# Altium integrated library ST Memory EEPROM Flash.IntLib: 1183 symbols (part 8 of 29)
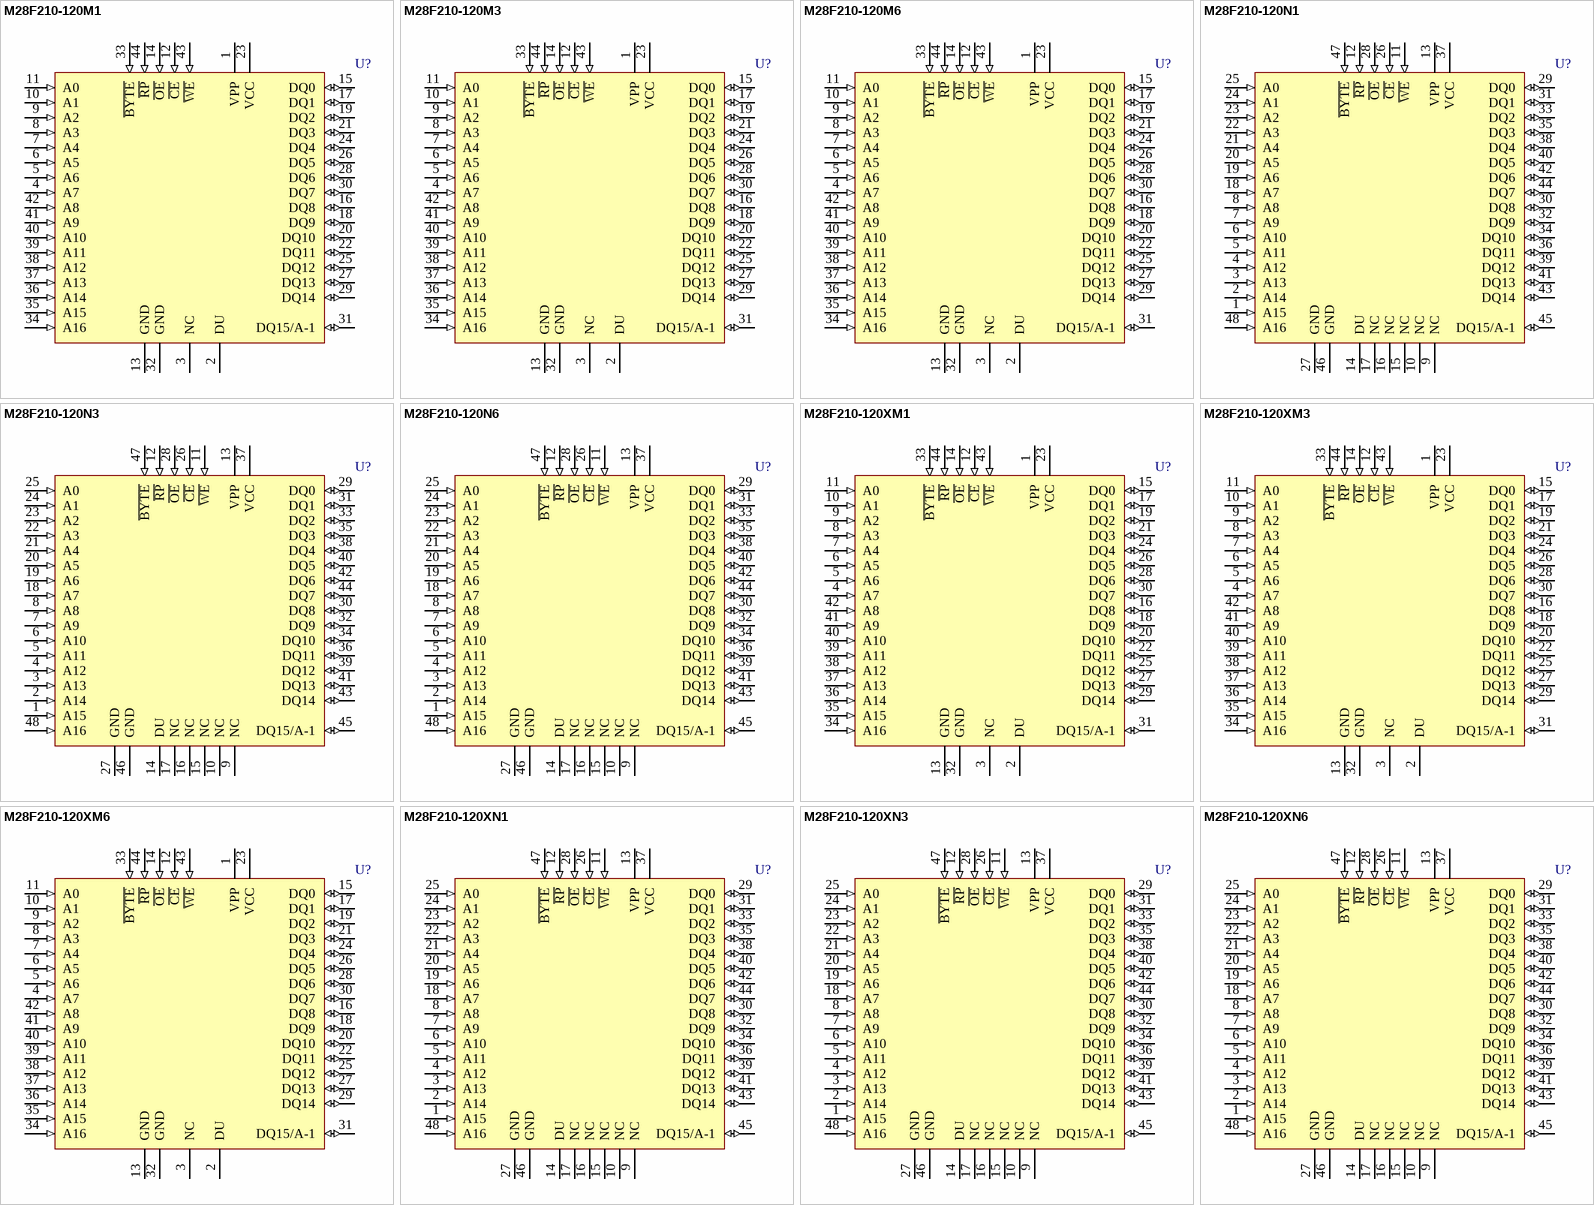
[diagram p88: symbols M28F210-120M1 to M28F210-120XN6]

## M28F210-120M3
designator U?
2 Mbit (x8 or x16, Block Erase) Flash Memory; Note: Do Not Use pin number 2 (DU).; Published: 24-Aug-2001; LatestRevisionDate: 13-Apr-2006; LatestRevisionNote: IPC-7351 Footprint Added.; DatasheetVersion: Feb-1996; PackageReference: SO44; Publisher: Altium Limited; PackageDescription: 44-Pin Plastic Small Outline Package 1.27 mm Pitch; ComponentLink1Description: Manufacturer Link; ComponentLink1URL: http://www.st.com/
footprint SO44_N (SOP, 44-Leads, Body 28.2x13.3mm, Pitch 1.27mm, IPC Medium Density)
footprint SO44_L (SOP, 44-Leads, Body 28.2x13.3mm, Pitch 1.27mm, IPC High Density)
footprint SO44_M (SOP, 44-Leads, Body 28.2x13.3mm, Pitch 1.27mm, IPC Low Density)
3D model SO44 (44-Pin Plastic Small Outline Package 1.27 mm Pitch)
pins: 1 VPP (power), 2 DU, 3 NC, 4 A7 (in), 5 A6 (in), 6 A5 (in), 7 A4 (in), 8 A3 (in), 9 A2 (in), 10 A1 (in), 11 A0 (in), 12 ~{CE} (in), 13 GND (power), 14 ~{OE} (in), 15 DQ0 (io), 16 DQ8 (io), 17 DQ1 (io), 18 DQ9 (io), 19 DQ2 (io), 20 DQ10 (io), 21 DQ3 (io), 22 DQ11 (io), 23 VCC (power), 24 DQ4 (io), 25 DQ12 (io), 26 DQ5 (io), 27 DQ13 (io), 28 DQ6 (io), 29 DQ14 (io), 30 DQ7 (io), 31 DQ15/A-1 (io), 32 GND (power), 33 ~{BYTE} (in), 34 A16 (in), 35 A15 (in), 36 A14 (in), 37 A13 (in), 38 A12 (in), 39 A11 (in), 40 A10 (in), 41 A9 (in), 42 A8 (in), 43 ~{WE} (in), 44 ~{RP} (in)

## M28F210-120M6
designator U?
2 Mbit (x8 or x16, Block Erase) Flash Memory; Note: Do Not Use pin number 2 (DU).; Published: 24-Aug-2001; LatestRevisionDate: 13-Apr-2006; LatestRevisionNote: IPC-7351 Footprint Added.; DatasheetVersion: Feb-1996; PackageReference: SO44; Publisher: Altium Limited; PackageDescription: 44-Pin Plastic Small Outline Package 1.27 mm Pitch; ComponentLink1Description: Manufacturer Link; ComponentLink1URL: http://www.st.com/
footprint SO44_N (SOP, 44-Leads, Body 28.2x13.3mm, Pitch 1.27mm, IPC Medium Density)
footprint SO44_L (SOP, 44-Leads, Body 28.2x13.3mm, Pitch 1.27mm, IPC High Density)
footprint SO44_M (SOP, 44-Leads, Body 28.2x13.3mm, Pitch 1.27mm, IPC Low Density)
3D model SO44 (44-Pin Plastic Small Outline Package 1.27 mm Pitch)
pins: 1 VPP (power), 2 DU, 3 NC, 4 A7 (in), 5 A6 (in), 6 A5 (in), 7 A4 (in), 8 A3 (in), 9 A2 (in), 10 A1 (in), 11 A0 (in), 12 ~{CE} (in), 13 GND (power), 14 ~{OE} (in), 15 DQ0 (io), 16 DQ8 (io), 17 DQ1 (io), 18 DQ9 (io), 19 DQ2 (io), 20 DQ10 (io), 21 DQ3 (io), 22 DQ11 (io), 23 VCC (power), 24 DQ4 (io), 25 DQ12 (io), 26 DQ5 (io), 27 DQ13 (io), 28 DQ6 (io), 29 DQ14 (io), 30 DQ7 (io), 31 DQ15/A-1 (io), 32 GND (power), 33 ~{BYTE} (in), 34 A16 (in), 35 A15 (in), 36 A14 (in), 37 A13 (in), 38 A12 (in), 39 A11 (in), 40 A10 (in), 41 A9 (in), 42 A8 (in), 43 ~{WE} (in), 44 ~{RP} (in)

## M28F210-120N1
designator U?
2 Mbit (x8 or x16, Block Erase) Flash Memory; Note: Do Not Use pin number 14 (DU).; Published: 24-Aug-2001; LatestRevisionDate: 06-Jun-2005; LatestRevisionNote: Stylized 3D Model Added.; DatasheetVersion: Feb-1996; PackageVersion: Jul-1998; PackageReference: TSOP48; Publisher: Altium Limited; PackageDescription: Shrink Small Outline, Plastic, Thin; 48 Leads; Body Width 18.4 mm; Pitch 0.5 mm; Code_JEDEC: MO-142-DD; ComponentLink1Description: Manufacturer Link; ComponentLink1URL: http://www.st.com/
footprint TSOP48 (Shrink Small Outline, Plastic, Thin; 48 Leads; Body Width 18.4 mm; Pitch 0.5 mm)
3D model TSOP48 (Shrink Small Outline, Plastic, Thin; 48 Leads; Body Width 18.4 mm; Pitch 0.5 mm)
pins: 1 A15 (in), 2 A14 (in), 3 A13 (in), 4 A12 (in), 5 A11 (in), 6 A10 (in), 7 A9 (in), 8 A8 (in), 9 NC, 10 NC, 11 ~{WE} (in), 12 ~{RP} (in), 13 VPP (power), 14 DU, 15 NC, 16 NC, 17 NC, 18 A7 (in), 19 A6 (in), 20 A5 (in), 21 A4 (in), 22 A3 (in), 23 A2 (in), 24 A1 (in), 25 A0 (in), 26 ~{CE} (in), 27 GND (power), 28 ~{OE} (in), 29 DQ0 (io), 30 DQ8 (io), 31 DQ1 (io), 32 DQ9 (io), 33 DQ2 (io), 34 DQ10 (io), 35 DQ3 (io), 36 DQ11 (io), 37 VCC (power), 38 DQ4 (io), 39 DQ12 (io), 40 DQ5 (io), 41 DQ13 (io), 42 DQ6 (io), 43 DQ14 (io), 44 DQ7 (io), 45 DQ15/A-1 (io), 46 GND (power), 47 ~{BYTE} (in), 48 A16 (in)

## M28F210-120N3
designator U?
2 Mbit (x8 or x16, Block Erase) Flash Memory; Note: Do Not Use pin number 14 (DU).; Published: 24-Aug-2001; LatestRevisionDate: 06-Jun-2005; LatestRevisionNote: Stylized 3D Model Added.; DatasheetVersion: Feb-1996; PackageVersion: Jul-1998; PackageReference: TSOP48; Publisher: Altium Limited; PackageDescription: Shrink Small Outline, Plastic, Thin; 48 Leads; Body Width 18.4 mm; Pitch 0.5 mm; Code_JEDEC: MO-142-DD; ComponentLink1Description: Manufacturer Link; ComponentLink1URL: http://www.st.com/
footprint TSOP48 (Shrink Small Outline, Plastic, Thin; 48 Leads; Body Width 18.4 mm; Pitch 0.5 mm)
3D model TSOP48 (Shrink Small Outline, Plastic, Thin; 48 Leads; Body Width 18.4 mm; Pitch 0.5 mm)
pins: 1 A15 (in), 2 A14 (in), 3 A13 (in), 4 A12 (in), 5 A11 (in), 6 A10 (in), 7 A9 (in), 8 A8 (in), 9 NC, 10 NC, 11 ~{WE} (in), 12 ~{RP} (in), 13 VPP (power), 14 DU, 15 NC, 16 NC, 17 NC, 18 A7 (in), 19 A6 (in), 20 A5 (in), 21 A4 (in), 22 A3 (in), 23 A2 (in), 24 A1 (in), 25 A0 (in), 26 ~{CE} (in), 27 GND (power), 28 ~{OE} (in), 29 DQ0 (io), 30 DQ8 (io), 31 DQ1 (io), 32 DQ9 (io), 33 DQ2 (io), 34 DQ10 (io), 35 DQ3 (io), 36 DQ11 (io), 37 VCC (power), 38 DQ4 (io), 39 DQ12 (io), 40 DQ5 (io), 41 DQ13 (io), 42 DQ6 (io), 43 DQ14 (io), 44 DQ7 (io), 45 DQ15/A-1 (io), 46 GND (power), 47 ~{BYTE} (in), 48 A16 (in)

## M28F210-120N6
designator U?
2 Mbit (x8 or x16, Block Erase) Flash Memory; Note: Do Not Use pin number 14 (DU).; Published: 24-Aug-2001; LatestRevisionDate: 06-Jun-2005; LatestRevisionNote: Stylized 3D Model Added.; DatasheetVersion: Feb-1996; PackageVersion: Jul-1998; PackageReference: TSOP48; Publisher: Altium Limited; PackageDescription: Shrink Small Outline, Plastic, Thin; 48 Leads; Body Width 18.4 mm; Pitch 0.5 mm; Code_JEDEC: MO-142-DD; ComponentLink1Description: Manufacturer Link; ComponentLink1URL: http://www.st.com/
footprint TSOP48 (Shrink Small Outline, Plastic, Thin; 48 Leads; Body Width 18.4 mm; Pitch 0.5 mm)
3D model TSOP48 (Shrink Small Outline, Plastic, Thin; 48 Leads; Body Width 18.4 mm; Pitch 0.5 mm)
pins: 1 A15 (in), 2 A14 (in), 3 A13 (in), 4 A12 (in), 5 A11 (in), 6 A10 (in), 7 A9 (in), 8 A8 (in), 9 NC, 10 NC, 11 ~{WE} (in), 12 ~{RP} (in), 13 VPP (power), 14 DU, 15 NC, 16 NC, 17 NC, 18 A7 (in), 19 A6 (in), 20 A5 (in), 21 A4 (in), 22 A3 (in), 23 A2 (in), 24 A1 (in), 25 A0 (in), 26 ~{CE} (in), 27 GND (power), 28 ~{OE} (in), 29 DQ0 (io), 30 DQ8 (io), 31 DQ1 (io), 32 DQ9 (io), 33 DQ2 (io), 34 DQ10 (io), 35 DQ3 (io), 36 DQ11 (io), 37 VCC (power), 38 DQ4 (io), 39 DQ12 (io), 40 DQ5 (io), 41 DQ13 (io), 42 DQ6 (io), 43 DQ14 (io), 44 DQ7 (io), 45 DQ15/A-1 (io), 46 GND (power), 47 ~{BYTE} (in), 48 A16 (in)

## M28F210-120XM1
designator U?
2 Mbit (x8 or x16, Block Erase) Flash Memory; Note: Do Not Use pin number 2 (DU).; Published: 24-Aug-2001; LatestRevisionDate: 13-Apr-2006; LatestRevisionNote: IPC-7351 Footprint Added.; DatasheetVersion: Feb-1996; PackageReference: SO44; Publisher: Altium Limited; PackageDescription: 44-Pin Plastic Small Outline Package 1.27 mm Pitch; ComponentLink1Description: Manufacturer Link; ComponentLink1URL: http://www.st.com/
footprint SO44_N (SOP, 44-Leads, Body 28.2x13.3mm, Pitch 1.27mm, IPC Medium Density)
footprint SO44_L (SOP, 44-Leads, Body 28.2x13.3mm, Pitch 1.27mm, IPC High Density)
footprint SO44_M (SOP, 44-Leads, Body 28.2x13.3mm, Pitch 1.27mm, IPC Low Density)
3D model SO44 (44-Pin Plastic Small Outline Package 1.27 mm Pitch)
pins: 1 VPP (power), 2 DU, 3 NC, 4 A7 (in), 5 A6 (in), 6 A5 (in), 7 A4 (in), 8 A3 (in), 9 A2 (in), 10 A1 (in), 11 A0 (in), 12 ~{CE} (in), 13 GND (power), 14 ~{OE} (in), 15 DQ0 (io), 16 DQ8 (io), 17 DQ1 (io), 18 DQ9 (io), 19 DQ2 (io), 20 DQ10 (io), 21 DQ3 (io), 22 DQ11 (io), 23 VCC (power), 24 DQ4 (io), 25 DQ12 (io), 26 DQ5 (io), 27 DQ13 (io), 28 DQ6 (io), 29 DQ14 (io), 30 DQ7 (io), 31 DQ15/A-1 (io), 32 GND (power), 33 ~{BYTE} (in), 34 A16 (in), 35 A15 (in), 36 A14 (in), 37 A13 (in), 38 A12 (in), 39 A11 (in), 40 A10 (in), 41 A9 (in), 42 A8 (in), 43 ~{WE} (in), 44 ~{RP} (in)

## M28F210-120XM3
designator U?
2 Mbit (x8 or x16, Block Erase) Flash Memory; Note: Do Not Use pin number 2 (DU).; Published: 24-Aug-2001; LatestRevisionDate: 13-Apr-2006; LatestRevisionNote: IPC-7351 Footprint Added.; DatasheetVersion: Feb-1996; PackageReference: SO44; Publisher: Altium Limited; PackageDescription: 44-Pin Plastic Small Outline Package 1.27 mm Pitch; ComponentLink1Description: Manufacturer Link; ComponentLink1URL: http://www.st.com/
footprint SO44_N (SOP, 44-Leads, Body 28.2x13.3mm, Pitch 1.27mm, IPC Medium Density)
footprint SO44_L (SOP, 44-Leads, Body 28.2x13.3mm, Pitch 1.27mm, IPC High Density)
footprint SO44_M (SOP, 44-Leads, Body 28.2x13.3mm, Pitch 1.27mm, IPC Low Density)
3D model SO44 (44-Pin Plastic Small Outline Package 1.27 mm Pitch)
pins: 1 VPP (power), 2 DU, 3 NC, 4 A7 (in), 5 A6 (in), 6 A5 (in), 7 A4 (in), 8 A3 (in), 9 A2 (in), 10 A1 (in), 11 A0 (in), 12 ~{CE} (in), 13 GND (power), 14 ~{OE} (in), 15 DQ0 (io), 16 DQ8 (io), 17 DQ1 (io), 18 DQ9 (io), 19 DQ2 (io), 20 DQ10 (io), 21 DQ3 (io), 22 DQ11 (io), 23 VCC (power), 24 DQ4 (io), 25 DQ12 (io), 26 DQ5 (io), 27 DQ13 (io), 28 DQ6 (io), 29 DQ14 (io), 30 DQ7 (io), 31 DQ15/A-1 (io), 32 GND (power), 33 ~{BYTE} (in), 34 A16 (in), 35 A15 (in), 36 A14 (in), 37 A13 (in), 38 A12 (in), 39 A11 (in), 40 A10 (in), 41 A9 (in), 42 A8 (in), 43 ~{WE} (in), 44 ~{RP} (in)

## M28F210-120XM6
designator U?
2 Mbit (x8 or x16, Block Erase) Flash Memory; Note: Do Not Use pin number 2 (DU).; Published: 24-Aug-2001; LatestRevisionDate: 13-Apr-2006; LatestRevisionNote: IPC-7351 Footprint Added.; DatasheetVersion: Feb-1996; PackageReference: SO44; Publisher: Altium Limited; PackageDescription: 44-Pin Plastic Small Outline Package 1.27 mm Pitch; ComponentLink1Description: Manufacturer Link; ComponentLink1URL: http://www.st.com/
footprint SO44_N (SOP, 44-Leads, Body 28.2x13.3mm, Pitch 1.27mm, IPC Medium Density)
footprint SO44_L (SOP, 44-Leads, Body 28.2x13.3mm, Pitch 1.27mm, IPC High Density)
footprint SO44_M (SOP, 44-Leads, Body 28.2x13.3mm, Pitch 1.27mm, IPC Low Density)
3D model SO44 (44-Pin Plastic Small Outline Package 1.27 mm Pitch)
pins: 1 VPP (power), 2 DU, 3 NC, 4 A7 (in), 5 A6 (in), 6 A5 (in), 7 A4 (in), 8 A3 (in), 9 A2 (in), 10 A1 (in), 11 A0 (in), 12 ~{CE} (in), 13 GND (power), 14 ~{OE} (in), 15 DQ0 (io), 16 DQ8 (io), 17 DQ1 (io), 18 DQ9 (io), 19 DQ2 (io), 20 DQ10 (io), 21 DQ3 (io), 22 DQ11 (io), 23 VCC (power), 24 DQ4 (io), 25 DQ12 (io), 26 DQ5 (io), 27 DQ13 (io), 28 DQ6 (io), 29 DQ14 (io), 30 DQ7 (io), 31 DQ15/A-1 (io), 32 GND (power), 33 ~{BYTE} (in), 34 A16 (in), 35 A15 (in), 36 A14 (in), 37 A13 (in), 38 A12 (in), 39 A11 (in), 40 A10 (in), 41 A9 (in), 42 A8 (in), 43 ~{WE} (in), 44 ~{RP} (in)

## M28F210-120XN1
designator U?
2 Mbit (x8 or x16, Block Erase) Flash Memory; Note: Do Not Use pin number 14 (DU).; Published: 24-Aug-2001; LatestRevisionDate: 06-Jun-2005; LatestRevisionNote: Stylized 3D Model Added.; DatasheetVersion: Feb-1996; PackageVersion: Jul-1998; PackageReference: TSOP48; Publisher: Altium Limited; PackageDescription: Shrink Small Outline, Plastic, Thin; 48 Leads; Body Width 18.4 mm; Pitch 0.5 mm; Code_JEDEC: MO-142-DD; ComponentLink1Description: Manufacturer Link; ComponentLink1URL: http://www.st.com/
footprint TSOP48 (Shrink Small Outline, Plastic, Thin; 48 Leads; Body Width 18.4 mm; Pitch 0.5 mm)
3D model TSOP48 (Shrink Small Outline, Plastic, Thin; 48 Leads; Body Width 18.4 mm; Pitch 0.5 mm)
pins: 1 A15 (in), 2 A14 (in), 3 A13 (in), 4 A12 (in), 5 A11 (in), 6 A10 (in), 7 A9 (in), 8 A8 (in), 9 NC, 10 NC, 11 ~{WE} (in), 12 ~{RP} (in), 13 VPP (power), 14 DU, 15 NC, 16 NC, 17 NC, 18 A7 (in), 19 A6 (in), 20 A5 (in), 21 A4 (in), 22 A3 (in), 23 A2 (in), 24 A1 (in), 25 A0 (in), 26 ~{CE} (in), 27 GND (power), 28 ~{OE} (in), 29 DQ0 (io), 30 DQ8 (io), 31 DQ1 (io), 32 DQ9 (io), 33 DQ2 (io), 34 DQ10 (io), 35 DQ3 (io), 36 DQ11 (io), 37 VCC (power), 38 DQ4 (io), 39 DQ12 (io), 40 DQ5 (io), 41 DQ13 (io), 42 DQ6 (io), 43 DQ14 (io), 44 DQ7 (io), 45 DQ15/A-1 (io), 46 GND (power), 47 ~{BYTE} (in), 48 A16 (in)

## M28F210-120XN3
designator U?
2 Mbit (x8 or x16, Block Erase) Flash Memory; Note: Do Not Use pin number 14 (DU).; Published: 24-Aug-2001; LatestRevisionDate: 06-Jun-2005; LatestRevisionNote: Stylized 3D Model Added.; DatasheetVersion: Feb-1996; PackageVersion: Jul-1998; PackageReference: TSOP48; Publisher: Altium Limited; PackageDescription: Shrink Small Outline, Plastic, Thin; 48 Leads; Body Width 18.4 mm; Pitch 0.5 mm; Code_JEDEC: MO-142-DD; ComponentLink1Description: Manufacturer Link; ComponentLink1URL: http://www.st.com/
footprint TSOP48 (Shrink Small Outline, Plastic, Thin; 48 Leads; Body Width 18.4 mm; Pitch 0.5 mm)
3D model TSOP48 (Shrink Small Outline, Plastic, Thin; 48 Leads; Body Width 18.4 mm; Pitch 0.5 mm)
pins: 1 A15 (in), 2 A14 (in), 3 A13 (in), 4 A12 (in), 5 A11 (in), 6 A10 (in), 7 A9 (in), 8 A8 (in), 9 NC, 10 NC, 11 ~{WE} (in), 12 ~{RP} (in), 13 VPP (power), 14 DU, 15 NC, 16 NC, 17 NC, 18 A7 (in), 19 A6 (in), 20 A5 (in), 21 A4 (in), 22 A3 (in), 23 A2 (in), 24 A1 (in), 25 A0 (in), 26 ~{CE} (in), 27 GND (power), 28 ~{OE} (in), 29 DQ0 (io), 30 DQ8 (io), 31 DQ1 (io), 32 DQ9 (io), 33 DQ2 (io), 34 DQ10 (io), 35 DQ3 (io), 36 DQ11 (io), 37 VCC (power), 38 DQ4 (io), 39 DQ12 (io), 40 DQ5 (io), 41 DQ13 (io), 42 DQ6 (io), 43 DQ14 (io), 44 DQ7 (io), 45 DQ15/A-1 (io), 46 GND (power), 47 ~{BYTE} (in), 48 A16 (in)

## M28F210-120XN6
designator U?
2 Mbit (x8 or x16, Block Erase) Flash Memory; Note: Do Not Use pin number 14 (DU).; Published: 24-Aug-2001; LatestRevisionDate: 06-Jun-2005; LatestRevisionNote: Stylized 3D Model Added.; DatasheetVersion: Feb-1996; PackageVersion: Jul-1998; PackageReference: TSOP48; Publisher: Altium Limited; PackageDescription: Shrink Small Outline, Plastic, Thin; 48 Leads; Body Width 18.4 mm; Pitch 0.5 mm; Code_JEDEC: MO-142-DD; ComponentLink1Description: Manufacturer Link; ComponentLink1URL: http://www.st.com/
footprint TSOP48 (Shrink Small Outline, Plastic, Thin; 48 Leads; Body Width 18.4 mm; Pitch 0.5 mm)
3D model TSOP48 (Shrink Small Outline, Plastic, Thin; 48 Leads; Body Width 18.4 mm; Pitch 0.5 mm)
pins: 1 A15 (in), 2 A14 (in), 3 A13 (in), 4 A12 (in), 5 A11 (in), 6 A10 (in), 7 A9 (in), 8 A8 (in), 9 NC, 10 NC, 11 ~{WE} (in), 12 ~{RP} (in), 13 VPP (power), 14 DU, 15 NC, 16 NC, 17 NC, 18 A7 (in), 19 A6 (in), 20 A5 (in), 21 A4 (in), 22 A3 (in), 23 A2 (in), 24 A1 (in), 25 A0 (in), 26 ~{CE} (in), 27 GND (power), 28 ~{OE} (in), 29 DQ0 (io), 30 DQ8 (io), 31 DQ1 (io), 32 DQ9 (io), 33 DQ2 (io), 34 DQ10 (io), 35 DQ3 (io), 36 DQ11 (io), 37 VCC (power), 38 DQ4 (io), 39 DQ12 (io), 40 DQ5 (io), 41 DQ13 (io), 42 DQ6 (io), 43 DQ14 (io), 44 DQ7 (io), 45 DQ15/A-1 (io), 46 GND (power), 47 ~{BYTE} (in), 48 A16 (in)

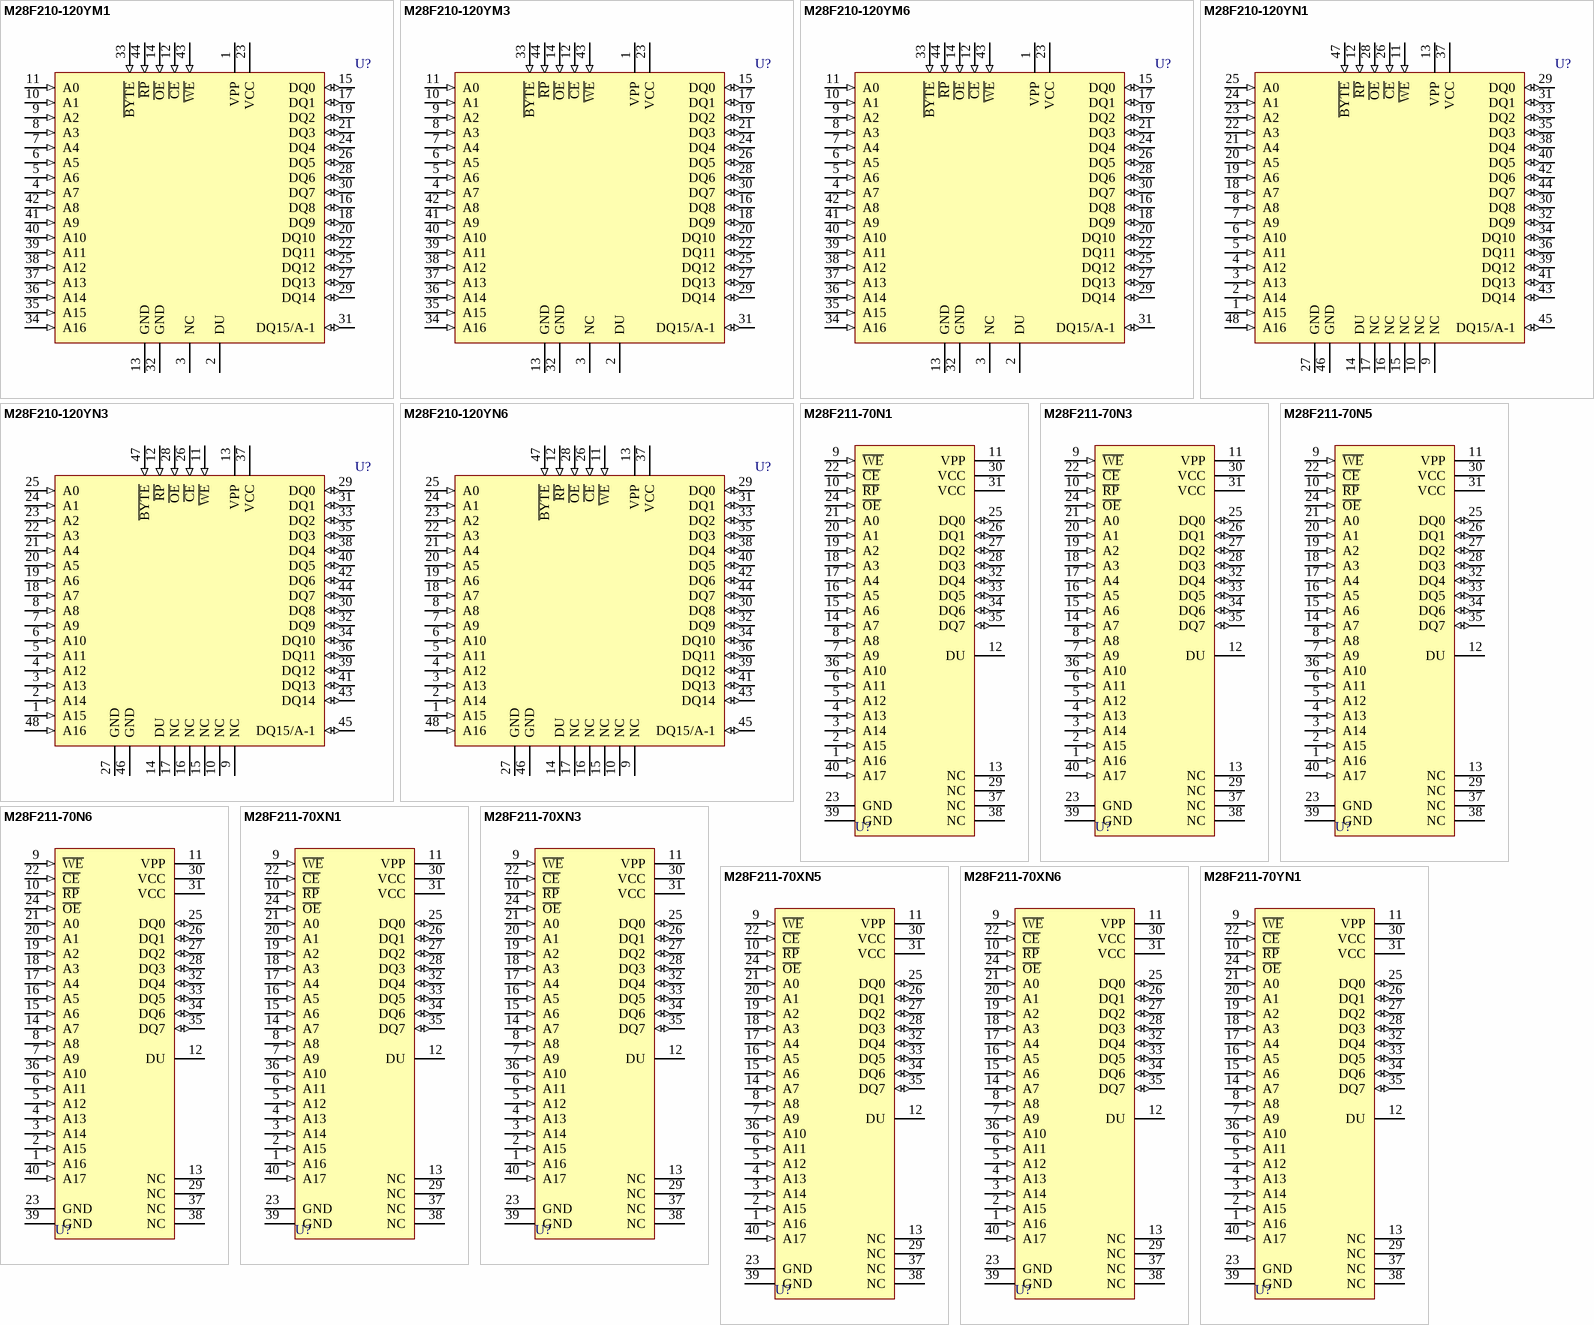
[diagram p18: symbols M28F210-120YM1 to M28F211-70YN1]

## M28F210-120YM1
designator U?
2 Mbit (x8 or x16, Block Erase) Flash Memory; Note: Do Not Use pin number 2 (DU).; Published: 24-Aug-2001; LatestRevisionDate: 13-Apr-2006; LatestRevisionNote: IPC-7351 Footprint Added.; DatasheetVersion: Feb-1996; PackageReference: SO44; Publisher: Altium Limited; PackageDescription: 44-Pin Plastic Small Outline Package 1.27 mm Pitch; ComponentLink1Description: Manufacturer Link; ComponentLink1URL: http://www.st.com/
footprint SO44_N (SOP, 44-Leads, Body 28.2x13.3mm, Pitch 1.27mm, IPC Medium Density)
footprint SO44_L (SOP, 44-Leads, Body 28.2x13.3mm, Pitch 1.27mm, IPC High Density)
footprint SO44_M (SOP, 44-Leads, Body 28.2x13.3mm, Pitch 1.27mm, IPC Low Density)
3D model SO44 (44-Pin Plastic Small Outline Package 1.27 mm Pitch)
pins: 1 VPP (power), 2 DU, 3 NC, 4 A7 (in), 5 A6 (in), 6 A5 (in), 7 A4 (in), 8 A3 (in), 9 A2 (in), 10 A1 (in), 11 A0 (in), 12 ~{CE} (in), 13 GND (power), 14 ~{OE} (in), 15 DQ0 (io), 16 DQ8 (io), 17 DQ1 (io), 18 DQ9 (io), 19 DQ2 (io), 20 DQ10 (io), 21 DQ3 (io), 22 DQ11 (io), 23 VCC (power), 24 DQ4 (io), 25 DQ12 (io), 26 DQ5 (io), 27 DQ13 (io), 28 DQ6 (io), 29 DQ14 (io), 30 DQ7 (io), 31 DQ15/A-1 (io), 32 GND (power), 33 ~{BYTE} (in), 34 A16 (in), 35 A15 (in), 36 A14 (in), 37 A13 (in), 38 A12 (in), 39 A11 (in), 40 A10 (in), 41 A9 (in), 42 A8 (in), 43 ~{WE} (in), 44 ~{RP} (in)

## M28F210-120YM3
designator U?
2 Mbit (x8 or x16, Block Erase) Flash Memory; Note: Do Not Use pin number 2 (DU).; Published: 24-Aug-2001; LatestRevisionDate: 13-Apr-2006; LatestRevisionNote: IPC-7351 Footprint Added.; DatasheetVersion: Feb-1996; PackageReference: SO44; Publisher: Altium Limited; PackageDescription: 44-Pin Plastic Small Outline Package 1.27 mm Pitch; ComponentLink1Description: Manufacturer Link; ComponentLink1URL: http://www.st.com/
footprint SO44_N (SOP, 44-Leads, Body 28.2x13.3mm, Pitch 1.27mm, IPC Medium Density)
footprint SO44_L (SOP, 44-Leads, Body 28.2x13.3mm, Pitch 1.27mm, IPC High Density)
footprint SO44_M (SOP, 44-Leads, Body 28.2x13.3mm, Pitch 1.27mm, IPC Low Density)
3D model SO44 (44-Pin Plastic Small Outline Package 1.27 mm Pitch)
pins: 1 VPP (power), 2 DU, 3 NC, 4 A7 (in), 5 A6 (in), 6 A5 (in), 7 A4 (in), 8 A3 (in), 9 A2 (in), 10 A1 (in), 11 A0 (in), 12 ~{CE} (in), 13 GND (power), 14 ~{OE} (in), 15 DQ0 (io), 16 DQ8 (io), 17 DQ1 (io), 18 DQ9 (io), 19 DQ2 (io), 20 DQ10 (io), 21 DQ3 (io), 22 DQ11 (io), 23 VCC (power), 24 DQ4 (io), 25 DQ12 (io), 26 DQ5 (io), 27 DQ13 (io), 28 DQ6 (io), 29 DQ14 (io), 30 DQ7 (io), 31 DQ15/A-1 (io), 32 GND (power), 33 ~{BYTE} (in), 34 A16 (in), 35 A15 (in), 36 A14 (in), 37 A13 (in), 38 A12 (in), 39 A11 (in), 40 A10 (in), 41 A9 (in), 42 A8 (in), 43 ~{WE} (in), 44 ~{RP} (in)

## M28F210-120YM6
designator U?
2 Mbit (x8 or x16, Block Erase) Flash Memory; Note: Do Not Use pin number 2 (DU).; Published: 24-Aug-2001; LatestRevisionDate: 13-Apr-2006; LatestRevisionNote: IPC-7351 Footprint Added.; DatasheetVersion: Feb-1996; PackageReference: SO44; Publisher: Altium Limited; PackageDescription: 44-Pin Plastic Small Outline Package 1.27 mm Pitch; ComponentLink1Description: Manufacturer Link; ComponentLink1URL: http://www.st.com/
footprint SO44_N (SOP, 44-Leads, Body 28.2x13.3mm, Pitch 1.27mm, IPC Medium Density)
footprint SO44_L (SOP, 44-Leads, Body 28.2x13.3mm, Pitch 1.27mm, IPC High Density)
footprint SO44_M (SOP, 44-Leads, Body 28.2x13.3mm, Pitch 1.27mm, IPC Low Density)
3D model SO44 (44-Pin Plastic Small Outline Package 1.27 mm Pitch)
pins: 1 VPP (power), 2 DU, 3 NC, 4 A7 (in), 5 A6 (in), 6 A5 (in), 7 A4 (in), 8 A3 (in), 9 A2 (in), 10 A1 (in), 11 A0 (in), 12 ~{CE} (in), 13 GND (power), 14 ~{OE} (in), 15 DQ0 (io), 16 DQ8 (io), 17 DQ1 (io), 18 DQ9 (io), 19 DQ2 (io), 20 DQ10 (io), 21 DQ3 (io), 22 DQ11 (io), 23 VCC (power), 24 DQ4 (io), 25 DQ12 (io), 26 DQ5 (io), 27 DQ13 (io), 28 DQ6 (io), 29 DQ14 (io), 30 DQ7 (io), 31 DQ15/A-1 (io), 32 GND (power), 33 ~{BYTE} (in), 34 A16 (in), 35 A15 (in), 36 A14 (in), 37 A13 (in), 38 A12 (in), 39 A11 (in), 40 A10 (in), 41 A9 (in), 42 A8 (in), 43 ~{WE} (in), 44 ~{RP} (in)

## M28F210-120YN1
designator U?
2 Mbit (x8 or x16, Block Erase) Flash Memory; Note: Do Not Use pin number 14 (DU).; Published: 24-Aug-2001; LatestRevisionDate: 06-Jun-2005; LatestRevisionNote: Stylized 3D Model Added.; DatasheetVersion: Feb-1996; PackageVersion: Jul-1998; PackageReference: TSOP48; Publisher: Altium Limited; PackageDescription: Shrink Small Outline, Plastic, Thin; 48 Leads; Body Width 18.4 mm; Pitch 0.5 mm; Code_JEDEC: MO-142-DD; ComponentLink1Description: Manufacturer Link; ComponentLink1URL: http://www.st.com/
footprint TSOP48 (Shrink Small Outline, Plastic, Thin; 48 Leads; Body Width 18.4 mm; Pitch 0.5 mm)
3D model TSOP48 (Shrink Small Outline, Plastic, Thin; 48 Leads; Body Width 18.4 mm; Pitch 0.5 mm)
pins: 1 A15 (in), 2 A14 (in), 3 A13 (in), 4 A12 (in), 5 A11 (in), 6 A10 (in), 7 A9 (in), 8 A8 (in), 9 NC, 10 NC, 11 ~{WE} (in), 12 ~{RP} (in), 13 VPP (power), 14 DU, 15 NC, 16 NC, 17 NC, 18 A7 (in), 19 A6 (in), 20 A5 (in), 21 A4 (in), 22 A3 (in), 23 A2 (in), 24 A1 (in), 25 A0 (in), 26 ~{CE} (in), 27 GND (power), 28 ~{OE} (in), 29 DQ0 (io), 30 DQ8 (io), 31 DQ1 (io), 32 DQ9 (io), 33 DQ2 (io), 34 DQ10 (io), 35 DQ3 (io), 36 DQ11 (io), 37 VCC (power), 38 DQ4 (io), 39 DQ12 (io), 40 DQ5 (io), 41 DQ13 (io), 42 DQ6 (io), 43 DQ14 (io), 44 DQ7 (io), 45 DQ15/A-1 (io), 46 GND (power), 47 ~{BYTE} (in), 48 A16 (in)

## M28F210-120YN3
designator U?
2 Mbit (x8 or x16, Block Erase) Flash Memory; Note: Do Not Use pin number 14 (DU).; Published: 24-Aug-2001; LatestRevisionDate: 06-Jun-2005; LatestRevisionNote: Stylized 3D Model Added.; DatasheetVersion: Feb-1996; PackageVersion: Jul-1998; PackageReference: TSOP48; Publisher: Altium Limited; PackageDescription: Shrink Small Outline, Plastic, Thin; 48 Leads; Body Width 18.4 mm; Pitch 0.5 mm; Code_JEDEC: MO-142-DD; ComponentLink1Description: Manufacturer Link; ComponentLink1URL: http://www.st.com/
footprint TSOP48 (Shrink Small Outline, Plastic, Thin; 48 Leads; Body Width 18.4 mm; Pitch 0.5 mm)
3D model TSOP48 (Shrink Small Outline, Plastic, Thin; 48 Leads; Body Width 18.4 mm; Pitch 0.5 mm)
pins: 1 A15 (in), 2 A14 (in), 3 A13 (in), 4 A12 (in), 5 A11 (in), 6 A10 (in), 7 A9 (in), 8 A8 (in), 9 NC, 10 NC, 11 ~{WE} (in), 12 ~{RP} (in), 13 VPP (power), 14 DU, 15 NC, 16 NC, 17 NC, 18 A7 (in), 19 A6 (in), 20 A5 (in), 21 A4 (in), 22 A3 (in), 23 A2 (in), 24 A1 (in), 25 A0 (in), 26 ~{CE} (in), 27 GND (power), 28 ~{OE} (in), 29 DQ0 (io), 30 DQ8 (io), 31 DQ1 (io), 32 DQ9 (io), 33 DQ2 (io), 34 DQ10 (io), 35 DQ3 (io), 36 DQ11 (io), 37 VCC (power), 38 DQ4 (io), 39 DQ12 (io), 40 DQ5 (io), 41 DQ13 (io), 42 DQ6 (io), 43 DQ14 (io), 44 DQ7 (io), 45 DQ15/A-1 (io), 46 GND (power), 47 ~{BYTE} (in), 48 A16 (in)

## M28F210-120YN6
designator U?
2 Mbit (x8 or x16, Block Erase) Flash Memory; Note: Do Not Use pin number 14 (DU).; Published: 24-Aug-2001; LatestRevisionDate: 06-Jun-2005; LatestRevisionNote: Stylized 3D Model Added.; DatasheetVersion: Feb-1996; PackageVersion: Jul-1998; PackageReference: TSOP48; Publisher: Altium Limited; PackageDescription: Shrink Small Outline, Plastic, Thin; 48 Leads; Body Width 18.4 mm; Pitch 0.5 mm; Code_JEDEC: MO-142-DD; ComponentLink1Description: Manufacturer Link; ComponentLink1URL: http://www.st.com/
footprint TSOP48 (Shrink Small Outline, Plastic, Thin; 48 Leads; Body Width 18.4 mm; Pitch 0.5 mm)
3D model TSOP48 (Shrink Small Outline, Plastic, Thin; 48 Leads; Body Width 18.4 mm; Pitch 0.5 mm)
pins: 1 A15 (in), 2 A14 (in), 3 A13 (in), 4 A12 (in), 5 A11 (in), 6 A10 (in), 7 A9 (in), 8 A8 (in), 9 NC, 10 NC, 11 ~{WE} (in), 12 ~{RP} (in), 13 VPP (power), 14 DU, 15 NC, 16 NC, 17 NC, 18 A7 (in), 19 A6 (in), 20 A5 (in), 21 A4 (in), 22 A3 (in), 23 A2 (in), 24 A1 (in), 25 A0 (in), 26 ~{CE} (in), 27 GND (power), 28 ~{OE} (in), 29 DQ0 (io), 30 DQ8 (io), 31 DQ1 (io), 32 DQ9 (io), 33 DQ2 (io), 34 DQ10 (io), 35 DQ3 (io), 36 DQ11 (io), 37 VCC (power), 38 DQ4 (io), 39 DQ12 (io), 40 DQ5 (io), 41 DQ13 (io), 42 DQ6 (io), 43 DQ14 (io), 44 DQ7 (io), 45 DQ15/A-1 (io), 46 GND (power), 47 ~{BYTE} (in), 48 A16 (in)

## M28F211-70N1
designator U?
2 Mbit (x8, Block Erase) Flash Memory; Note: Do Not Use pin number 12 (DU).; Published: 24-Aug-2001; LatestRevisionDate: 06-Jun-2005; LatestRevisionNote: Stylized 3D Model Added.; DatasheetVersion: Feb-1996; PackageVersion: Jul-1998; PackageReference: TSOP40A; Publisher: Altium Limited; PackageDescription: Shrink Small Outline, Plastic, Thin; 40 Leads; Body Width 18.4 mm; Pitch 0.5 mm; Code_JEDEC: MO-142-CD; ComponentLink1Description: Manufacturer Link; ComponentLink1URL: http://www.st.com/
footprint TSOP40A (Shrink Small Outline, Plastic, Thin; 40 Leads; Body Width 18.4 mm; Pitch 0.5 mm)
3D model TSOP40A (Shrink Small Outline, Plastic, Thin; 40 Leads; Body Width 18.4 mm; Pitch 0.5 mm)
pins: 1 A16 (in), 2 A15 (in), 3 A14 (in), 4 A13 (in), 5 A12 (in), 6 A11 (in), 7 A9 (in), 8 A8 (in), 9 ~{WE} (in), 10 ~{RP} (in), 11 VPP (power), 12 DU, 13 NC, 14 A7 (in), 15 A6 (in), 16 A5 (in), 17 A4 (in), 18 A3 (in), 19 A2 (in), 20 A1 (in), 21 A0 (in), 22 ~{CE} (in), 23 GND (power), 24 ~{OE} (in), 25 DQ0 (io), 26 DQ1 (io), 27 DQ2 (io), 28 DQ3 (io), 29 NC, 30 VCC (power), 31 VCC (power), 32 DQ4 (io), 33 DQ5 (io), 34 DQ6 (io), 35 DQ7 (io), 36 A10 (in), 37 NC, 38 NC, 39 GND (power), 40 A17 (in)

## M28F211-70N3
designator U?
2 Mbit (x8, Block Erase) Flash Memory; Note: Do Not Use pin number 12 (DU).; Published: 24-Aug-2001; LatestRevisionDate: 06-Jun-2005; LatestRevisionNote: Stylized 3D Model Added.; DatasheetVersion: Feb-1996; PackageVersion: Jul-1998; PackageReference: TSOP40A; Publisher: Altium Limited; PackageDescription: Shrink Small Outline, Plastic, Thin; 40 Leads; Body Width 18.4 mm; Pitch 0.5 mm; Code_JEDEC: MO-142-CD; ComponentLink1Description: Manufacturer Link; ComponentLink1URL: http://www.st.com/
footprint TSOP40A (Shrink Small Outline, Plastic, Thin; 40 Leads; Body Width 18.4 mm; Pitch 0.5 mm)
3D model TSOP40A (Shrink Small Outline, Plastic, Thin; 40 Leads; Body Width 18.4 mm; Pitch 0.5 mm)
pins: 1 A16 (in), 2 A15 (in), 3 A14 (in), 4 A13 (in), 5 A12 (in), 6 A11 (in), 7 A9 (in), 8 A8 (in), 9 ~{WE} (in), 10 ~{RP} (in), 11 VPP (power), 12 DU, 13 NC, 14 A7 (in), 15 A6 (in), 16 A5 (in), 17 A4 (in), 18 A3 (in), 19 A2 (in), 20 A1 (in), 21 A0 (in), 22 ~{CE} (in), 23 GND (power), 24 ~{OE} (in), 25 DQ0 (io), 26 DQ1 (io), 27 DQ2 (io), 28 DQ3 (io), 29 NC, 30 VCC (power), 31 VCC (power), 32 DQ4 (io), 33 DQ5 (io), 34 DQ6 (io), 35 DQ7 (io), 36 A10 (in), 37 NC, 38 NC, 39 GND (power), 40 A17 (in)

## M28F211-70N5
designator U?
2 Mbit (x8, Block Erase) Flash Memory; Note: Do Not Use pin number 12 (DU).; Published: 24-Aug-2001; LatestRevisionDate: 06-Jun-2005; LatestRevisionNote: Stylized 3D Model Added.; DatasheetVersion: Feb-1996; PackageVersion: Jul-1998; PackageReference: TSOP40A; Publisher: Altium Limited; PackageDescription: Shrink Small Outline, Plastic, Thin; 40 Leads; Body Width 18.4 mm; Pitch 0.5 mm; Code_JEDEC: MO-142-CD; ComponentLink1Description: Manufacturer Link; ComponentLink1URL: http://www.st.com/
footprint TSOP40A (Shrink Small Outline, Plastic, Thin; 40 Leads; Body Width 18.4 mm; Pitch 0.5 mm)
3D model TSOP40A (Shrink Small Outline, Plastic, Thin; 40 Leads; Body Width 18.4 mm; Pitch 0.5 mm)
pins: 1 A16 (in), 2 A15 (in), 3 A14 (in), 4 A13 (in), 5 A12 (in), 6 A11 (in), 7 A9 (in), 8 A8 (in), 9 ~{WE} (in), 10 ~{RP} (in), 11 VPP (power), 12 DU, 13 NC, 14 A7 (in), 15 A6 (in), 16 A5 (in), 17 A4 (in), 18 A3 (in), 19 A2 (in), 20 A1 (in), 21 A0 (in), 22 ~{CE} (in), 23 GND (power), 24 ~{OE} (in), 25 DQ0 (io), 26 DQ1 (io), 27 DQ2 (io), 28 DQ3 (io), 29 NC, 30 VCC (power), 31 VCC (power), 32 DQ4 (io), 33 DQ5 (io), 34 DQ6 (io), 35 DQ7 (io), 36 A10 (in), 37 NC, 38 NC, 39 GND (power), 40 A17 (in)

## M28F211-70N6
designator U?
2 Mbit (x8, Block Erase) Flash Memory; Note: Do Not Use pin number 12 (DU).; Published: 24-Aug-2001; LatestRevisionDate: 06-Jun-2005; LatestRevisionNote: Stylized 3D Model Added.; DatasheetVersion: Feb-1996; PackageVersion: Jul-1998; PackageReference: TSOP40A; Publisher: Altium Limited; PackageDescription: Shrink Small Outline, Plastic, Thin; 40 Leads; Body Width 18.4 mm; Pitch 0.5 mm; Code_JEDEC: MO-142-CD; ComponentLink1Description: Manufacturer Link; ComponentLink1URL: http://www.st.com/
footprint TSOP40A (Shrink Small Outline, Plastic, Thin; 40 Leads; Body Width 18.4 mm; Pitch 0.5 mm)
3D model TSOP40A (Shrink Small Outline, Plastic, Thin; 40 Leads; Body Width 18.4 mm; Pitch 0.5 mm)
pins: 1 A16 (in), 2 A15 (in), 3 A14 (in), 4 A13 (in), 5 A12 (in), 6 A11 (in), 7 A9 (in), 8 A8 (in), 9 ~{WE} (in), 10 ~{RP} (in), 11 VPP (power), 12 DU, 13 NC, 14 A7 (in), 15 A6 (in), 16 A5 (in), 17 A4 (in), 18 A3 (in), 19 A2 (in), 20 A1 (in), 21 A0 (in), 22 ~{CE} (in), 23 GND (power), 24 ~{OE} (in), 25 DQ0 (io), 26 DQ1 (io), 27 DQ2 (io), 28 DQ3 (io), 29 NC, 30 VCC (power), 31 VCC (power), 32 DQ4 (io), 33 DQ5 (io), 34 DQ6 (io), 35 DQ7 (io), 36 A10 (in), 37 NC, 38 NC, 39 GND (power), 40 A17 (in)

## M28F211-70XN1
designator U?
2 Mbit (x8, Block Erase) Flash Memory; Note: Do Not Use pin number 12 (DU).; Published: 24-Aug-2001; LatestRevisionDate: 06-Jun-2005; LatestRevisionNote: Stylized 3D Model Added.; DatasheetVersion: Feb-1996; PackageVersion: Jul-1998; PackageReference: TSOP40A; Publisher: Altium Limited; PackageDescription: Shrink Small Outline, Plastic, Thin; 40 Leads; Body Width 18.4 mm; Pitch 0.5 mm; Code_JEDEC: MO-142-CD; ComponentLink1Description: Manufacturer Link; ComponentLink1URL: http://www.st.com/
footprint TSOP40A (Shrink Small Outline, Plastic, Thin; 40 Leads; Body Width 18.4 mm; Pitch 0.5 mm)
3D model TSOP40A (Shrink Small Outline, Plastic, Thin; 40 Leads; Body Width 18.4 mm; Pitch 0.5 mm)
pins: 1 A16 (in), 2 A15 (in), 3 A14 (in), 4 A13 (in), 5 A12 (in), 6 A11 (in), 7 A9 (in), 8 A8 (in), 9 ~{WE} (in), 10 ~{RP} (in), 11 VPP (power), 12 DU, 13 NC, 14 A7 (in), 15 A6 (in), 16 A5 (in), 17 A4 (in), 18 A3 (in), 19 A2 (in), 20 A1 (in), 21 A0 (in), 22 ~{CE} (in), 23 GND (power), 24 ~{OE} (in), 25 DQ0 (io), 26 DQ1 (io), 27 DQ2 (io), 28 DQ3 (io), 29 NC, 30 VCC (power), 31 VCC (power), 32 DQ4 (io), 33 DQ5 (io), 34 DQ6 (io), 35 DQ7 (io), 36 A10 (in), 37 NC, 38 NC, 39 GND (power), 40 A17 (in)

## M28F211-70XN3
designator U?
2 Mbit (x8, Block Erase) Flash Memory; Note: Do Not Use pin number 12 (DU).; Published: 24-Aug-2001; LatestRevisionDate: 06-Jun-2005; LatestRevisionNote: Stylized 3D Model Added.; DatasheetVersion: Feb-1996; PackageVersion: Jul-1998; PackageReference: TSOP40A; Publisher: Altium Limited; PackageDescription: Shrink Small Outline, Plastic, Thin; 40 Leads; Body Width 18.4 mm; Pitch 0.5 mm; Code_JEDEC: MO-142-CD; ComponentLink1Description: Manufacturer Link; ComponentLink1URL: http://www.st.com/
footprint TSOP40A (Shrink Small Outline, Plastic, Thin; 40 Leads; Body Width 18.4 mm; Pitch 0.5 mm)
3D model TSOP40A (Shrink Small Outline, Plastic, Thin; 40 Leads; Body Width 18.4 mm; Pitch 0.5 mm)
pins: 1 A16 (in), 2 A15 (in), 3 A14 (in), 4 A13 (in), 5 A12 (in), 6 A11 (in), 7 A9 (in), 8 A8 (in), 9 ~{WE} (in), 10 ~{RP} (in), 11 VPP (power), 12 DU, 13 NC, 14 A7 (in), 15 A6 (in), 16 A5 (in), 17 A4 (in), 18 A3 (in), 19 A2 (in), 20 A1 (in), 21 A0 (in), 22 ~{CE} (in), 23 GND (power), 24 ~{OE} (in), 25 DQ0 (io), 26 DQ1 (io), 27 DQ2 (io), 28 DQ3 (io), 29 NC, 30 VCC (power), 31 VCC (power), 32 DQ4 (io), 33 DQ5 (io), 34 DQ6 (io), 35 DQ7 (io), 36 A10 (in), 37 NC, 38 NC, 39 GND (power), 40 A17 (in)

## M28F211-70XN5
designator U?
2 Mbit (x8, Block Erase) Flash Memory; Note: Do Not Use pin number 12 (DU).; Published: 24-Aug-2001; LatestRevisionDate: 06-Jun-2005; LatestRevisionNote: Stylized 3D Model Added.; DatasheetVersion: Feb-1996; PackageVersion: Jul-1998; PackageReference: TSOP40A; Publisher: Altium Limited; PackageDescription: Shrink Small Outline, Plastic, Thin; 40 Leads; Body Width 18.4 mm; Pitch 0.5 mm; Code_JEDEC: MO-142-CD; ComponentLink1Description: Manufacturer Link; ComponentLink1URL: http://www.st.com/
footprint TSOP40A (Shrink Small Outline, Plastic, Thin; 40 Leads; Body Width 18.4 mm; Pitch 0.5 mm)
3D model TSOP40A (Shrink Small Outline, Plastic, Thin; 40 Leads; Body Width 18.4 mm; Pitch 0.5 mm)
pins: 1 A16 (in), 2 A15 (in), 3 A14 (in), 4 A13 (in), 5 A12 (in), 6 A11 (in), 7 A9 (in), 8 A8 (in), 9 ~{WE} (in), 10 ~{RP} (in), 11 VPP (power), 12 DU, 13 NC, 14 A7 (in), 15 A6 (in), 16 A5 (in), 17 A4 (in), 18 A3 (in), 19 A2 (in), 20 A1 (in), 21 A0 (in), 22 ~{CE} (in), 23 GND (power), 24 ~{OE} (in), 25 DQ0 (io), 26 DQ1 (io), 27 DQ2 (io), 28 DQ3 (io), 29 NC, 30 VCC (power), 31 VCC (power), 32 DQ4 (io), 33 DQ5 (io), 34 DQ6 (io), 35 DQ7 (io), 36 A10 (in), 37 NC, 38 NC, 39 GND (power), 40 A17 (in)

## M28F211-70XN6
designator U?
2 Mbit (x8, Block Erase) Flash Memory; Note: Do Not Use pin number 12 (DU).; Published: 24-Aug-2001; LatestRevisionDate: 06-Jun-2005; LatestRevisionNote: Stylized 3D Model Added.; DatasheetVersion: Feb-1996; PackageVersion: Jul-1998; PackageReference: TSOP40A; Publisher: Altium Limited; PackageDescription: Shrink Small Outline, Plastic, Thin; 40 Leads; Body Width 18.4 mm; Pitch 0.5 mm; Code_JEDEC: MO-142-CD; ComponentLink1Description: Manufacturer Link; ComponentLink1URL: http://www.st.com/
footprint TSOP40A (Shrink Small Outline, Plastic, Thin; 40 Leads; Body Width 18.4 mm; Pitch 0.5 mm)
3D model TSOP40A (Shrink Small Outline, Plastic, Thin; 40 Leads; Body Width 18.4 mm; Pitch 0.5 mm)
pins: 1 A16 (in), 2 A15 (in), 3 A14 (in), 4 A13 (in), 5 A12 (in), 6 A11 (in), 7 A9 (in), 8 A8 (in), 9 ~{WE} (in), 10 ~{RP} (in), 11 VPP (power), 12 DU, 13 NC, 14 A7 (in), 15 A6 (in), 16 A5 (in), 17 A4 (in), 18 A3 (in), 19 A2 (in), 20 A1 (in), 21 A0 (in), 22 ~{CE} (in), 23 GND (power), 24 ~{OE} (in), 25 DQ0 (io), 26 DQ1 (io), 27 DQ2 (io), 28 DQ3 (io), 29 NC, 30 VCC (power), 31 VCC (power), 32 DQ4 (io), 33 DQ5 (io), 34 DQ6 (io), 35 DQ7 (io), 36 A10 (in), 37 NC, 38 NC, 39 GND (power), 40 A17 (in)

## M28F211-70YN1
designator U?
2 Mbit (x8, Block Erase) Flash Memory; Note: Do Not Use pin number 12 (DU).; Published: 24-Aug-2001; LatestRevisionDate: 06-Jun-2005; LatestRevisionNote: Stylized 3D Model Added.; DatasheetVersion: Feb-1996; PackageVersion: Jul-1998; PackageReference: TSOP40A; Publisher: Altium Limited; PackageDescription: Shrink Small Outline, Plastic, Thin; 40 Leads; Body Width 18.4 mm; Pitch 0.5 mm; Code_JEDEC: MO-142-CD; ComponentLink1Description: Manufacturer Link; ComponentLink1URL: http://www.st.com/
footprint TSOP40A (Shrink Small Outline, Plastic, Thin; 40 Leads; Body Width 18.4 mm; Pitch 0.5 mm)
3D model TSOP40A (Shrink Small Outline, Plastic, Thin; 40 Leads; Body Width 18.4 mm; Pitch 0.5 mm)
pins: 1 A16 (in), 2 A15 (in), 3 A14 (in), 4 A13 (in), 5 A12 (in), 6 A11 (in), 7 A9 (in), 8 A8 (in), 9 ~{WE} (in), 10 ~{RP} (in), 11 VPP (power), 12 DU, 13 NC, 14 A7 (in), 15 A6 (in), 16 A5 (in), 17 A4 (in), 18 A3 (in), 19 A2 (in), 20 A1 (in), 21 A0 (in), 22 ~{CE} (in), 23 GND (power), 24 ~{OE} (in), 25 DQ0 (io), 26 DQ1 (io), 27 DQ2 (io), 28 DQ3 (io), 29 NC, 30 VCC (power), 31 VCC (power), 32 DQ4 (io), 33 DQ5 (io), 34 DQ6 (io), 35 DQ7 (io), 36 A10 (in), 37 NC, 38 NC, 39 GND (power), 40 A17 (in)

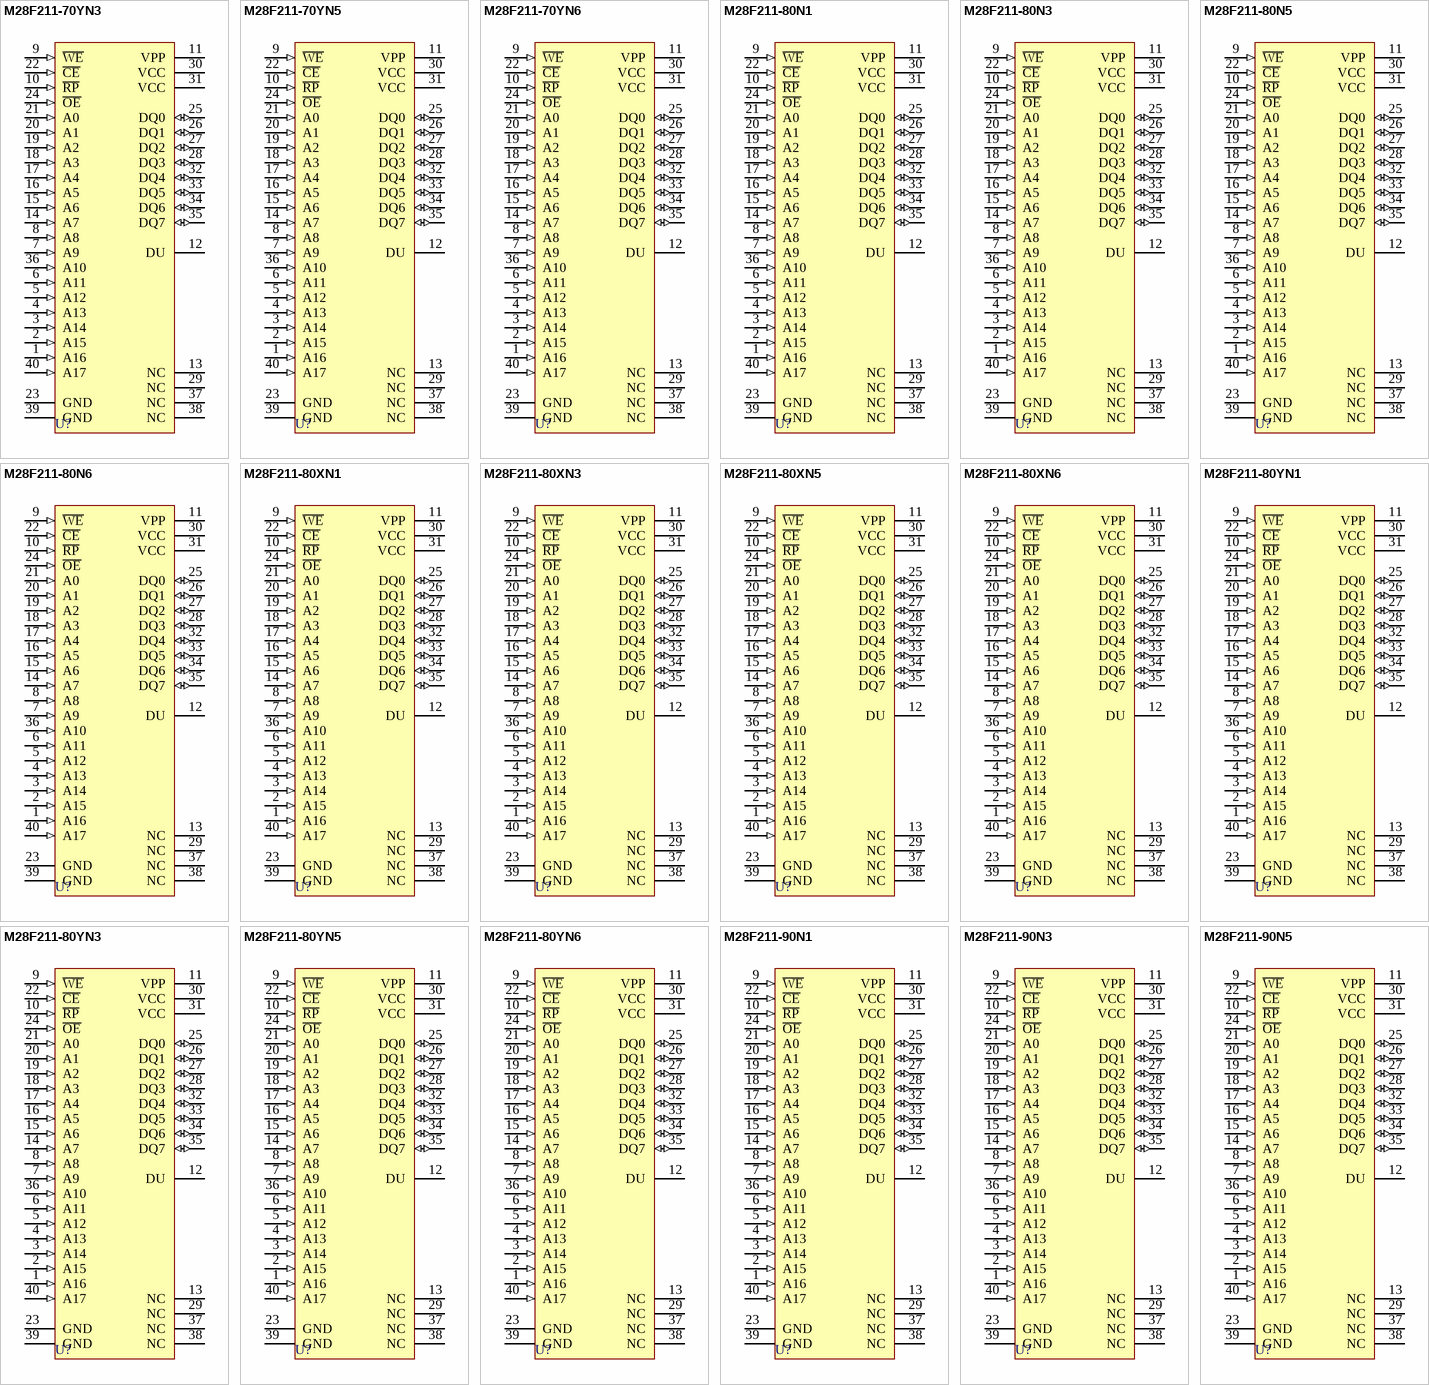
[diagram p19: symbols M28F211-70YN3 to M28F211-90N5]

## M28F211-70YN3
designator U?
2 Mbit (x8, Block Erase) Flash Memory; Note: Do Not Use pin number 12 (DU).; Published: 24-Aug-2001; LatestRevisionDate: 06-Jun-2005; LatestRevisionNote: Stylized 3D Model Added.; DatasheetVersion: Feb-1996; PackageVersion: Jul-1998; PackageReference: TSOP40A; Publisher: Altium Limited; PackageDescription: Shrink Small Outline, Plastic, Thin; 40 Leads; Body Width 18.4 mm; Pitch 0.5 mm; Code_JEDEC: MO-142-CD; ComponentLink1Description: Manufacturer Link; ComponentLink1URL: http://www.st.com/
footprint TSOP40A (Shrink Small Outline, Plastic, Thin; 40 Leads; Body Width 18.4 mm; Pitch 0.5 mm)
3D model TSOP40A (Shrink Small Outline, Plastic, Thin; 40 Leads; Body Width 18.4 mm; Pitch 0.5 mm)
pins: 1 A16 (in), 2 A15 (in), 3 A14 (in), 4 A13 (in), 5 A12 (in), 6 A11 (in), 7 A9 (in), 8 A8 (in), 9 ~{WE} (in), 10 ~{RP} (in), 11 VPP (power), 12 DU, 13 NC, 14 A7 (in), 15 A6 (in), 16 A5 (in), 17 A4 (in), 18 A3 (in), 19 A2 (in), 20 A1 (in), 21 A0 (in), 22 ~{CE} (in), 23 GND (power), 24 ~{OE} (in), 25 DQ0 (io), 26 DQ1 (io), 27 DQ2 (io), 28 DQ3 (io), 29 NC, 30 VCC (power), 31 VCC (power), 32 DQ4 (io), 33 DQ5 (io), 34 DQ6 (io), 35 DQ7 (io), 36 A10 (in), 37 NC, 38 NC, 39 GND (power), 40 A17 (in)

## M28F211-70YN5
designator U?
2 Mbit (x8, Block Erase) Flash Memory; Note: Do Not Use pin number 12 (DU).; Published: 24-Aug-2001; LatestRevisionDate: 06-Jun-2005; LatestRevisionNote: Stylized 3D Model Added.; DatasheetVersion: Feb-1996; PackageVersion: Jul-1998; PackageReference: TSOP40A; Publisher: Altium Limited; PackageDescription: Shrink Small Outline, Plastic, Thin; 40 Leads; Body Width 18.4 mm; Pitch 0.5 mm; Code_JEDEC: MO-142-CD; ComponentLink1Description: Manufacturer Link; ComponentLink1URL: http://www.st.com/
footprint TSOP40A (Shrink Small Outline, Plastic, Thin; 40 Leads; Body Width 18.4 mm; Pitch 0.5 mm)
3D model TSOP40A (Shrink Small Outline, Plastic, Thin; 40 Leads; Body Width 18.4 mm; Pitch 0.5 mm)
pins: 1 A16 (in), 2 A15 (in), 3 A14 (in), 4 A13 (in), 5 A12 (in), 6 A11 (in), 7 A9 (in), 8 A8 (in), 9 ~{WE} (in), 10 ~{RP} (in), 11 VPP (power), 12 DU, 13 NC, 14 A7 (in), 15 A6 (in), 16 A5 (in), 17 A4 (in), 18 A3 (in), 19 A2 (in), 20 A1 (in), 21 A0 (in), 22 ~{CE} (in), 23 GND (power), 24 ~{OE} (in), 25 DQ0 (io), 26 DQ1 (io), 27 DQ2 (io), 28 DQ3 (io), 29 NC, 30 VCC (power), 31 VCC (power), 32 DQ4 (io), 33 DQ5 (io), 34 DQ6 (io), 35 DQ7 (io), 36 A10 (in), 37 NC, 38 NC, 39 GND (power), 40 A17 (in)

## M28F211-70YN6
designator U?
2 Mbit (x8, Block Erase) Flash Memory; Note: Do Not Use pin number 12 (DU).; Published: 24-Aug-2001; LatestRevisionDate: 06-Jun-2005; LatestRevisionNote: Stylized 3D Model Added.; DatasheetVersion: Feb-1996; PackageVersion: Jul-1998; PackageReference: TSOP40A; Publisher: Altium Limited; PackageDescription: Shrink Small Outline, Plastic, Thin; 40 Leads; Body Width 18.4 mm; Pitch 0.5 mm; Code_JEDEC: MO-142-CD; ComponentLink1Description: Manufacturer Link; ComponentLink1URL: http://www.st.com/
footprint TSOP40A (Shrink Small Outline, Plastic, Thin; 40 Leads; Body Width 18.4 mm; Pitch 0.5 mm)
3D model TSOP40A (Shrink Small Outline, Plastic, Thin; 40 Leads; Body Width 18.4 mm; Pitch 0.5 mm)
pins: 1 A16 (in), 2 A15 (in), 3 A14 (in), 4 A13 (in), 5 A12 (in), 6 A11 (in), 7 A9 (in), 8 A8 (in), 9 ~{WE} (in), 10 ~{RP} (in), 11 VPP (power), 12 DU, 13 NC, 14 A7 (in), 15 A6 (in), 16 A5 (in), 17 A4 (in), 18 A3 (in), 19 A2 (in), 20 A1 (in), 21 A0 (in), 22 ~{CE} (in), 23 GND (power), 24 ~{OE} (in), 25 DQ0 (io), 26 DQ1 (io), 27 DQ2 (io), 28 DQ3 (io), 29 NC, 30 VCC (power), 31 VCC (power), 32 DQ4 (io), 33 DQ5 (io), 34 DQ6 (io), 35 DQ7 (io), 36 A10 (in), 37 NC, 38 NC, 39 GND (power), 40 A17 (in)

## M28F211-80N1
designator U?
2 Mbit (x8, Block Erase) Flash Memory; Note: Do Not Use pin number 12 (DU).; Published: 24-Aug-2001; LatestRevisionDate: 06-Jun-2005; LatestRevisionNote: Stylized 3D Model Added.; DatasheetVersion: Feb-1996; PackageVersion: Jul-1998; PackageReference: TSOP40A; Publisher: Altium Limited; PackageDescription: Shrink Small Outline, Plastic, Thin; 40 Leads; Body Width 18.4 mm; Pitch 0.5 mm; Code_JEDEC: MO-142-CD; ComponentLink1Description: Manufacturer Link; ComponentLink1URL: http://www.st.com/
footprint TSOP40A (Shrink Small Outline, Plastic, Thin; 40 Leads; Body Width 18.4 mm; Pitch 0.5 mm)
3D model TSOP40A (Shrink Small Outline, Plastic, Thin; 40 Leads; Body Width 18.4 mm; Pitch 0.5 mm)
pins: 1 A16 (in), 2 A15 (in), 3 A14 (in), 4 A13 (in), 5 A12 (in), 6 A11 (in), 7 A9 (in), 8 A8 (in), 9 ~{WE} (in), 10 ~{RP} (in), 11 VPP (power), 12 DU, 13 NC, 14 A7 (in), 15 A6 (in), 16 A5 (in), 17 A4 (in), 18 A3 (in), 19 A2 (in), 20 A1 (in), 21 A0 (in), 22 ~{CE} (in), 23 GND (power), 24 ~{OE} (in), 25 DQ0 (io), 26 DQ1 (io), 27 DQ2 (io), 28 DQ3 (io), 29 NC, 30 VCC (power), 31 VCC (power), 32 DQ4 (io), 33 DQ5 (io), 34 DQ6 (io), 35 DQ7 (io), 36 A10 (in), 37 NC, 38 NC, 39 GND (power), 40 A17 (in)

## M28F211-80N3
designator U?
2 Mbit (x8, Block Erase) Flash Memory; Note: Do Not Use pin number 12 (DU).; Published: 24-Aug-2001; LatestRevisionDate: 06-Jun-2005; LatestRevisionNote: Stylized 3D Model Added.; DatasheetVersion: Feb-1996; PackageVersion: Jul-1998; PackageReference: TSOP40A; Publisher: Altium Limited; PackageDescription: Shrink Small Outline, Plastic, Thin; 40 Leads; Body Width 18.4 mm; Pitch 0.5 mm; Code_JEDEC: MO-142-CD; ComponentLink1Description: Manufacturer Link; ComponentLink1URL: http://www.st.com/
footprint TSOP40A (Shrink Small Outline, Plastic, Thin; 40 Leads; Body Width 18.4 mm; Pitch 0.5 mm)
3D model TSOP40A (Shrink Small Outline, Plastic, Thin; 40 Leads; Body Width 18.4 mm; Pitch 0.5 mm)
pins: 1 A16 (in), 2 A15 (in), 3 A14 (in), 4 A13 (in), 5 A12 (in), 6 A11 (in), 7 A9 (in), 8 A8 (in), 9 ~{WE} (in), 10 ~{RP} (in), 11 VPP (power), 12 DU, 13 NC, 14 A7 (in), 15 A6 (in), 16 A5 (in), 17 A4 (in), 18 A3 (in), 19 A2 (in), 20 A1 (in), 21 A0 (in), 22 ~{CE} (in), 23 GND (power), 24 ~{OE} (in), 25 DQ0 (io), 26 DQ1 (io), 27 DQ2 (io), 28 DQ3 (io), 29 NC, 30 VCC (power), 31 VCC (power), 32 DQ4 (io), 33 DQ5 (io), 34 DQ6 (io), 35 DQ7 (io), 36 A10 (in), 37 NC, 38 NC, 39 GND (power), 40 A17 (in)

## M28F211-80N5
designator U?
2 Mbit (x8, Block Erase) Flash Memory; Note: Do Not Use pin number 12 (DU).; Published: 24-Aug-2001; LatestRevisionDate: 06-Jun-2005; LatestRevisionNote: Stylized 3D Model Added.; DatasheetVersion: Feb-1996; PackageVersion: Jul-1998; PackageReference: TSOP40A; Publisher: Altium Limited; PackageDescription: Shrink Small Outline, Plastic, Thin; 40 Leads; Body Width 18.4 mm; Pitch 0.5 mm; Code_JEDEC: MO-142-CD; ComponentLink1Description: Manufacturer Link; ComponentLink1URL: http://www.st.com/
footprint TSOP40A (Shrink Small Outline, Plastic, Thin; 40 Leads; Body Width 18.4 mm; Pitch 0.5 mm)
3D model TSOP40A (Shrink Small Outline, Plastic, Thin; 40 Leads; Body Width 18.4 mm; Pitch 0.5 mm)
pins: 1 A16 (in), 2 A15 (in), 3 A14 (in), 4 A13 (in), 5 A12 (in), 6 A11 (in), 7 A9 (in), 8 A8 (in), 9 ~{WE} (in), 10 ~{RP} (in), 11 VPP (power), 12 DU, 13 NC, 14 A7 (in), 15 A6 (in), 16 A5 (in), 17 A4 (in), 18 A3 (in), 19 A2 (in), 20 A1 (in), 21 A0 (in), 22 ~{CE} (in), 23 GND (power), 24 ~{OE} (in), 25 DQ0 (io), 26 DQ1 (io), 27 DQ2 (io), 28 DQ3 (io), 29 NC, 30 VCC (power), 31 VCC (power), 32 DQ4 (io), 33 DQ5 (io), 34 DQ6 (io), 35 DQ7 (io), 36 A10 (in), 37 NC, 38 NC, 39 GND (power), 40 A17 (in)

## M28F211-80N6
designator U?
2 Mbit (x8, Block Erase) Flash Memory; Note: Do Not Use pin number 12 (DU).; Published: 24-Aug-2001; LatestRevisionDate: 06-Jun-2005; LatestRevisionNote: Stylized 3D Model Added.; DatasheetVersion: Feb-1996; PackageVersion: Jul-1998; PackageReference: TSOP40A; Publisher: Altium Limited; PackageDescription: Shrink Small Outline, Plastic, Thin; 40 Leads; Body Width 18.4 mm; Pitch 0.5 mm; Code_JEDEC: MO-142-CD; ComponentLink1Description: Manufacturer Link; ComponentLink1URL: http://www.st.com/
footprint TSOP40A (Shrink Small Outline, Plastic, Thin; 40 Leads; Body Width 18.4 mm; Pitch 0.5 mm)
3D model TSOP40A (Shrink Small Outline, Plastic, Thin; 40 Leads; Body Width 18.4 mm; Pitch 0.5 mm)
pins: 1 A16 (in), 2 A15 (in), 3 A14 (in), 4 A13 (in), 5 A12 (in), 6 A11 (in), 7 A9 (in), 8 A8 (in), 9 ~{WE} (in), 10 ~{RP} (in), 11 VPP (power), 12 DU, 13 NC, 14 A7 (in), 15 A6 (in), 16 A5 (in), 17 A4 (in), 18 A3 (in), 19 A2 (in), 20 A1 (in), 21 A0 (in), 22 ~{CE} (in), 23 GND (power), 24 ~{OE} (in), 25 DQ0 (io), 26 DQ1 (io), 27 DQ2 (io), 28 DQ3 (io), 29 NC, 30 VCC (power), 31 VCC (power), 32 DQ4 (io), 33 DQ5 (io), 34 DQ6 (io), 35 DQ7 (io), 36 A10 (in), 37 NC, 38 NC, 39 GND (power), 40 A17 (in)

## M28F211-80XN1
designator U?
2 Mbit (x8, Block Erase) Flash Memory; Note: Do Not Use pin number 12 (DU).; Published: 24-Aug-2001; LatestRevisionDate: 06-Jun-2005; LatestRevisionNote: Stylized 3D Model Added.; DatasheetVersion: Feb-1996; PackageVersion: Jul-1998; PackageReference: TSOP40A; Publisher: Altium Limited; PackageDescription: Shrink Small Outline, Plastic, Thin; 40 Leads; Body Width 18.4 mm; Pitch 0.5 mm; Code_JEDEC: MO-142-CD; ComponentLink1Description: Manufacturer Link; ComponentLink1URL: http://www.st.com/
footprint TSOP40A (Shrink Small Outline, Plastic, Thin; 40 Leads; Body Width 18.4 mm; Pitch 0.5 mm)
3D model TSOP40A (Shrink Small Outline, Plastic, Thin; 40 Leads; Body Width 18.4 mm; Pitch 0.5 mm)
pins: 1 A16 (in), 2 A15 (in), 3 A14 (in), 4 A13 (in), 5 A12 (in), 6 A11 (in), 7 A9 (in), 8 A8 (in), 9 ~{WE} (in), 10 ~{RP} (in), 11 VPP (power), 12 DU, 13 NC, 14 A7 (in), 15 A6 (in), 16 A5 (in), 17 A4 (in), 18 A3 (in), 19 A2 (in), 20 A1 (in), 21 A0 (in), 22 ~{CE} (in), 23 GND (power), 24 ~{OE} (in), 25 DQ0 (io), 26 DQ1 (io), 27 DQ2 (io), 28 DQ3 (io), 29 NC, 30 VCC (power), 31 VCC (power), 32 DQ4 (io), 33 DQ5 (io), 34 DQ6 (io), 35 DQ7 (io), 36 A10 (in), 37 NC, 38 NC, 39 GND (power), 40 A17 (in)

## M28F211-80XN3
designator U?
2 Mbit (x8, Block Erase) Flash Memory; Note: Do Not Use pin number 12 (DU).; Published: 24-Aug-2001; LatestRevisionDate: 06-Jun-2005; LatestRevisionNote: Stylized 3D Model Added.; DatasheetVersion: Feb-1996; PackageVersion: Jul-1998; PackageReference: TSOP40A; Publisher: Altium Limited; PackageDescription: Shrink Small Outline, Plastic, Thin; 40 Leads; Body Width 18.4 mm; Pitch 0.5 mm; Code_JEDEC: MO-142-CD; ComponentLink1Description: Manufacturer Link; ComponentLink1URL: http://www.st.com/
footprint TSOP40A (Shrink Small Outline, Plastic, Thin; 40 Leads; Body Width 18.4 mm; Pitch 0.5 mm)
3D model TSOP40A (Shrink Small Outline, Plastic, Thin; 40 Leads; Body Width 18.4 mm; Pitch 0.5 mm)
pins: 1 A16 (in), 2 A15 (in), 3 A14 (in), 4 A13 (in), 5 A12 (in), 6 A11 (in), 7 A9 (in), 8 A8 (in), 9 ~{WE} (in), 10 ~{RP} (in), 11 VPP (power), 12 DU, 13 NC, 14 A7 (in), 15 A6 (in), 16 A5 (in), 17 A4 (in), 18 A3 (in), 19 A2 (in), 20 A1 (in), 21 A0 (in), 22 ~{CE} (in), 23 GND (power), 24 ~{OE} (in), 25 DQ0 (io), 26 DQ1 (io), 27 DQ2 (io), 28 DQ3 (io), 29 NC, 30 VCC (power), 31 VCC (power), 32 DQ4 (io), 33 DQ5 (io), 34 DQ6 (io), 35 DQ7 (io), 36 A10 (in), 37 NC, 38 NC, 39 GND (power), 40 A17 (in)

## M28F211-80XN5
designator U?
2 Mbit (x8, Block Erase) Flash Memory; Note: Do Not Use pin number 12 (DU).; Published: 24-Aug-2001; LatestRevisionDate: 06-Jun-2005; LatestRevisionNote: Stylized 3D Model Added.; DatasheetVersion: Feb-1996; PackageVersion: Jul-1998; PackageReference: TSOP40A; Publisher: Altium Limited; PackageDescription: Shrink Small Outline, Plastic, Thin; 40 Leads; Body Width 18.4 mm; Pitch 0.5 mm; Code_JEDEC: MO-142-CD; ComponentLink1Description: Manufacturer Link; ComponentLink1URL: http://www.st.com/
footprint TSOP40A (Shrink Small Outline, Plastic, Thin; 40 Leads; Body Width 18.4 mm; Pitch 0.5 mm)
3D model TSOP40A (Shrink Small Outline, Plastic, Thin; 40 Leads; Body Width 18.4 mm; Pitch 0.5 mm)
pins: 1 A16 (in), 2 A15 (in), 3 A14 (in), 4 A13 (in), 5 A12 (in), 6 A11 (in), 7 A9 (in), 8 A8 (in), 9 ~{WE} (in), 10 ~{RP} (in), 11 VPP (power), 12 DU, 13 NC, 14 A7 (in), 15 A6 (in), 16 A5 (in), 17 A4 (in), 18 A3 (in), 19 A2 (in), 20 A1 (in), 21 A0 (in), 22 ~{CE} (in), 23 GND (power), 24 ~{OE} (in), 25 DQ0 (io), 26 DQ1 (io), 27 DQ2 (io), 28 DQ3 (io), 29 NC, 30 VCC (power), 31 VCC (power), 32 DQ4 (io), 33 DQ5 (io), 34 DQ6 (io), 35 DQ7 (io), 36 A10 (in), 37 NC, 38 NC, 39 GND (power), 40 A17 (in)

## M28F211-80XN6
designator U?
2 Mbit (x8, Block Erase) Flash Memory; Note: Do Not Use pin number 12 (DU).; Published: 24-Aug-2001; LatestRevisionDate: 06-Jun-2005; LatestRevisionNote: Stylized 3D Model Added.; DatasheetVersion: Feb-1996; PackageVersion: Jul-1998; PackageReference: TSOP40A; Publisher: Altium Limited; PackageDescription: Shrink Small Outline, Plastic, Thin; 40 Leads; Body Width 18.4 mm; Pitch 0.5 mm; Code_JEDEC: MO-142-CD; ComponentLink1Description: Manufacturer Link; ComponentLink1URL: http://www.st.com/
footprint TSOP40A (Shrink Small Outline, Plastic, Thin; 40 Leads; Body Width 18.4 mm; Pitch 0.5 mm)
3D model TSOP40A (Shrink Small Outline, Plastic, Thin; 40 Leads; Body Width 18.4 mm; Pitch 0.5 mm)
pins: 1 A16 (in), 2 A15 (in), 3 A14 (in), 4 A13 (in), 5 A12 (in), 6 A11 (in), 7 A9 (in), 8 A8 (in), 9 ~{WE} (in), 10 ~{RP} (in), 11 VPP (power), 12 DU, 13 NC, 14 A7 (in), 15 A6 (in), 16 A5 (in), 17 A4 (in), 18 A3 (in), 19 A2 (in), 20 A1 (in), 21 A0 (in), 22 ~{CE} (in), 23 GND (power), 24 ~{OE} (in), 25 DQ0 (io), 26 DQ1 (io), 27 DQ2 (io), 28 DQ3 (io), 29 NC, 30 VCC (power), 31 VCC (power), 32 DQ4 (io), 33 DQ5 (io), 34 DQ6 (io), 35 DQ7 (io), 36 A10 (in), 37 NC, 38 NC, 39 GND (power), 40 A17 (in)

## M28F211-80YN1
designator U?
2 Mbit (x8, Block Erase) Flash Memory; Note: Do Not Use pin number 12 (DU).; Published: 24-Aug-2001; LatestRevisionDate: 06-Jun-2005; LatestRevisionNote: Stylized 3D Model Added.; DatasheetVersion: Feb-1996; PackageVersion: Jul-1998; PackageReference: TSOP40A; Publisher: Altium Limited; PackageDescription: Shrink Small Outline, Plastic, Thin; 40 Leads; Body Width 18.4 mm; Pitch 0.5 mm; Code_JEDEC: MO-142-CD; ComponentLink1Description: Manufacturer Link; ComponentLink1URL: http://www.st.com/
footprint TSOP40A (Shrink Small Outline, Plastic, Thin; 40 Leads; Body Width 18.4 mm; Pitch 0.5 mm)
3D model TSOP40A (Shrink Small Outline, Plastic, Thin; 40 Leads; Body Width 18.4 mm; Pitch 0.5 mm)
pins: 1 A16 (in), 2 A15 (in), 3 A14 (in), 4 A13 (in), 5 A12 (in), 6 A11 (in), 7 A9 (in), 8 A8 (in), 9 ~{WE} (in), 10 ~{RP} (in), 11 VPP (power), 12 DU, 13 NC, 14 A7 (in), 15 A6 (in), 16 A5 (in), 17 A4 (in), 18 A3 (in), 19 A2 (in), 20 A1 (in), 21 A0 (in), 22 ~{CE} (in), 23 GND (power), 24 ~{OE} (in), 25 DQ0 (io), 26 DQ1 (io), 27 DQ2 (io), 28 DQ3 (io), 29 NC, 30 VCC (power), 31 VCC (power), 32 DQ4 (io), 33 DQ5 (io), 34 DQ6 (io), 35 DQ7 (io), 36 A10 (in), 37 NC, 38 NC, 39 GND (power), 40 A17 (in)

## M28F211-80YN3
designator U?
2 Mbit (x8, Block Erase) Flash Memory; Note: Do Not Use pin number 12 (DU).; Published: 24-Aug-2001; LatestRevisionDate: 06-Jun-2005; LatestRevisionNote: Stylized 3D Model Added.; DatasheetVersion: Feb-1996; PackageVersion: Jul-1998; PackageReference: TSOP40A; Publisher: Altium Limited; PackageDescription: Shrink Small Outline, Plastic, Thin; 40 Leads; Body Width 18.4 mm; Pitch 0.5 mm; Code_JEDEC: MO-142-CD; ComponentLink1Description: Manufacturer Link; ComponentLink1URL: http://www.st.com/
footprint TSOP40A (Shrink Small Outline, Plastic, Thin; 40 Leads; Body Width 18.4 mm; Pitch 0.5 mm)
3D model TSOP40A (Shrink Small Outline, Plastic, Thin; 40 Leads; Body Width 18.4 mm; Pitch 0.5 mm)
pins: 1 A16 (in), 2 A15 (in), 3 A14 (in), 4 A13 (in), 5 A12 (in), 6 A11 (in), 7 A9 (in), 8 A8 (in), 9 ~{WE} (in), 10 ~{RP} (in), 11 VPP (power), 12 DU, 13 NC, 14 A7 (in), 15 A6 (in), 16 A5 (in), 17 A4 (in), 18 A3 (in), 19 A2 (in), 20 A1 (in), 21 A0 (in), 22 ~{CE} (in), 23 GND (power), 24 ~{OE} (in), 25 DQ0 (io), 26 DQ1 (io), 27 DQ2 (io), 28 DQ3 (io), 29 NC, 30 VCC (power), 31 VCC (power), 32 DQ4 (io), 33 DQ5 (io), 34 DQ6 (io), 35 DQ7 (io), 36 A10 (in), 37 NC, 38 NC, 39 GND (power), 40 A17 (in)